# EAGLE library part STM32F051 (library STM32F0)
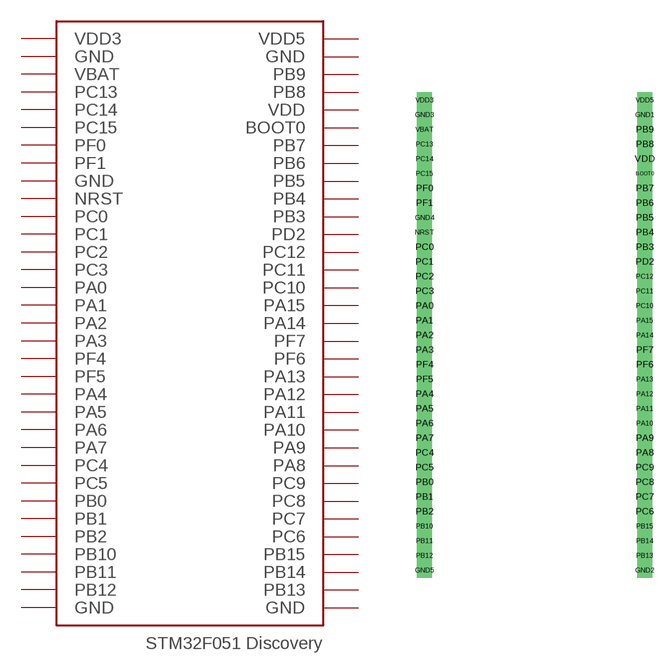
[diagram p0: symbol with the pads of STM32F051; footprint STM32F051]

Designator prefix -

## STM32F051  [STM32F051]
BOOT0  BOOT0
GND1  GND1
GND2  GND2
GND3  GND3
GND4  GND4
GND5  GND5
NRST  NRST
PA0  PA0
PA1  PA1
PA2  PA2
PA3  PA3
PA4  PA4
PA5  PA5
PA6  PA6
PA7  PA7
PA8  PA8
PA9  PA9
PA10  PA10
PA11  PA11
PA12  PA12
PA13  PA13
PA14  PA14
PA15  PA15
PB0  PB0
PB1  PB1
PB2  PB2
PB3  PB3
PB4  PB4
PB5  PB5
PB6  PB6
PB7  PB7
PB8  PB8
PB9  PB9
PB10  PB10
PB11  PB11
PB12  PB12
PB13  PB13
PB14  PB14
PB15  PB15
PC0  PC0
PC1  PC1
PC2  PC2
PC3  PC3
PC4  PC4
PC5  PC5
PC6  PC6
PC7  PC7
PC8  PC8
PC9  PC9
PC10  PC10
PC11  PC11
PC12  PC12
PC13  PC13
PC14  PC14
PC15  PC15
PD2  PD2
PF0  PF0
PF1  PF1
PF4  PF4
PF5  PF5
PF6  PF6
PF7  PF7
VBAT  VBAT
VDD  VDD
VDD3  VDD3
VDD5  VDD5

## Footprint STM32F051 (pad centres in mm)
drill 0.8 square: BOOT0 0,5.08; GND1 0,10.16; GND2 0,-29.21; GND3 -19.05,10.16; GND4 -19.05,1.27; GND5 -19.05,-29.21; NRST -19.05,0; PA0 -19.05,-6.35; PA1 -19.05,-7.62; PA2 -19.05,-8.89; PA3 -19.05,-10.16; PA4 -19.05,-13.97; PA5 -19.05,-15.24; PA6 -19.05,-16.51; PA7 -19.05,-17.78; PA8 0,-19.05; PA9 0,-17.78; PA10 0,-16.51; PA11 0,-15.24; PA12 0,-13.97; PA13 0,-12.7; PA14 0,-8.89; PA15 0,-7.62; PB0 -19.05,-21.59; PB1 -19.05,-22.86; PB2 -19.05,-24.13; PB3 0,-1.27; PB4 0,0; PB5 0,1.27; PB6 0,2.54; PB7 0,3.81; PB8 0,7.62; PB9 0,8.89; PB10 -19.05,-25.4; PB11 -19.05,-26.67; PB12 -19.05,-27.94; PB13 0,-27.94; PB14 0,-26.67; PB15 0,-25.4; PC0 -19.05,-1.27; PC1 -19.05,-2.54; PC2 -19.05,-3.81; PC3 -19.05,-5.08; PC4 -19.05,-19.05; PC5 -19.05,-20.32; PC6 0,-24.13; PC7 0,-22.86; PC8 0,-21.59; PC9 0,-20.32; PC10 0,-6.35; PC11 0,-5.08; PC12 0,-3.81; PC13 -19.05,7.62; PC14 -19.05,6.35; PC15 -19.05,5.08; PD2 0,-2.54; PF0 -19.05,3.81; PF1 -19.05,2.54; PF4 -19.05,-11.43; PF5 -19.05,-12.7; PF6 0,-11.43; PF7 0,-10.16; VBAT -19.05,8.89; VDD 0,6.35; VDD3 -19.05,11.43; VDD5 0,11.43